# Altium schematic symbol library Schematic_Memory.SchLib: 6 symbols
Pins are listed as number, name and electrical type; pins without a type are passive.

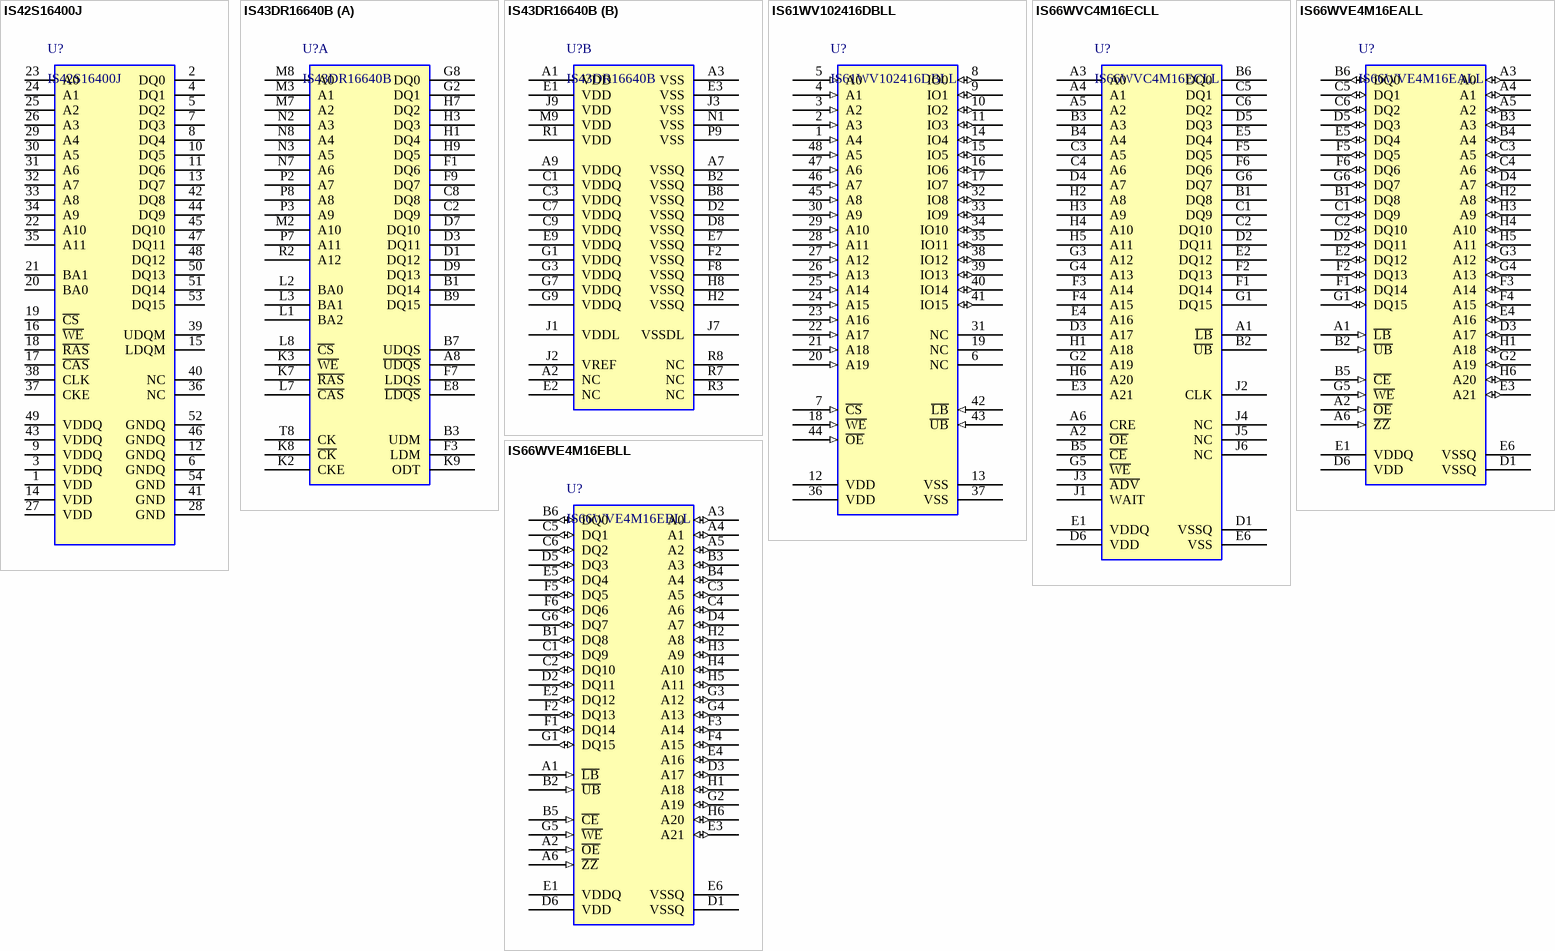
[diagram p0: symbols IS42S16400J to IS66WVE4M16EBLL]

## IS42S16400J
designator U?
DRAM 64M (4Mx16) 166MHz SDR SDRAM, 3.3V; Manufacturer: ISSI; Manufacturer Part Number: IS42S16400J-6TLI; Access Time: 5.4ns; Max Supply Voltage: 3.6V; Min Supply Voltage: 3V; Data Bus Width: 16b; Memory Size: 64Mb; Memory Type: RAM,SDRAM; Interface: Parallel; Address Bus Width: 14b; Nominal Supply Current: 100mA; Supplier 1: Avnet; Stock 1: 1136; Pricing 1: 1=1.29, 10=1.29, 25=1.29, 50=1.19, 100=1.19 (USD); Mount: Surface Mount; Case/Package: TSOP; Number of Pins: 54; Min Operating Temperature: -40°C; Max Operating Temperature: 85°C; Packaging: Tray; Package Quantity: 108; Frequency: 166MHz; Max Frequency: 166MHz; Operating Supply Voltage: 3.3V; Density: 64Mb; Radiation Hardening: No; Lead Free: Lead Free; ComponentLink1URL: https://www.verical.com/server-webapp/html/getDatasheet?partID=783875&src-supplier=Verical; ComponentLink1Description: https://www.verical.com/server-webapp/html/getDatasheet?partID=783875&src-supplier=Verical
footprint TSOP80P1180X120-54N (TSOP, 54-Leads, Body 22.20x10.15mm, Pitch 0.80mm, IPC Medium Density)
pins: 1 VDD, 2 DQ0, 3 VDDQ, 4 DQ1, 5 DQ2, 6 GNDQ, 7 DQ3, 8 DQ4, 9 VDDQ, 10 DQ5, 11 DQ6, 12 GNDQ, 13 DQ7, 14 VDD, 15 LDQM, 16 ~{WE}, 17 ~{CAS}, 18 ~{RAS}, 19 ~{CS}, 20 BA0, 21 BA1, 22 A10, 23 A0, 24 A1, 25 A2, 26 A3, 27 VDD, 28 GND, 29 A4, 30 A5, 31 A6, 32 A7, 33 A8, 34 A9, 35 A11, 36 NC, 37 CKE, 38 CLK, 39 UDQM, 40 NC, 41 GND, 42 DQ8, 43 VDDQ, 44 DQ9, 45 DQ10, 46 GNDQ, 47 DQ11, 48 DQ12, 49 VDDQ, 50 DQ13, 51 DQ14, 52 GNDQ, 53 DQ15, 54 GND

## IS43DR16640B
designator U?
SDRAM 1Gb (64Mx16) 333Mhz SDRAM, 1.7 - 1.9V
footprint BGA84C80P9X15_800X1250X120
part A pins: A8 ~{UDQS}, B1 DQ14, B3 UDM, B7 UDQS, B9 DQ15, C2 DQ9, C8 DQ8, D1 DQ12, D3 DQ11, D7 DQ10, D9 DQ13, E8 ~{LDQS}, F1 DQ6, F3 LDM, F7 LDQS, F9 DQ7, G2 DQ1, G8 DQ0, H1 DQ4, H3 DQ3, H7 DQ2, H9 DQ5, K2 CKE, K3 ~{WE}, K7 ~{RAS}, K8 ~{CK}, K9 ODT, L1 BA2, L2 BA0, L3 BA1, L7 ~{CAS}, L8 ~{CS}, M2 A10, M3 A1, M7 A2, M8 A0, N2 A3, N3 A5, N7 A6, N8 A4, P2 A7, P3 A9, P7 A11, P8 A8, R2 A12, T8 CK
part B pins: A1 VDD, A2 NC, A3 VSS, A7 VSSQ, A9 VDDQ, B2 VSSQ, B8 VSSQ, C1 VDDQ, C3 VDDQ, C7 VDDQ, C9 VDDQ, D2 VSSQ, D8 VSSQ, E1 VDD, E2 NC, E3 VSS, E7 VSSQ, E9 VDDQ, F2 VSSQ, F8 VSSQ, G1 VDDQ, G3 VDDQ, G7 VDDQ, G9 VDDQ, H2 VSSQ, H8 VSSQ, J1 VDDL, J2 VREF, J3 VSS, J7 VSSDL, J9 VDD, M9 VDD, N1 VSS, P9 VSS, R1 VDD, R3 NC, R7 NC, R8 NC

## IS61WV102416DBLL
designator U?
IC SRAM 16M PARALLEL 48TSOP I; Manufacturer: ISSI; Manufacturer Part Number: IS61WV102416DBLL10TLI; Supplier 1: Digi-Key; RoHS: No; Category: RAM; Stock 1: 381; Pricing 1: 1=13.38000, 10=12.39300, 25=12.22000, 50=12.07020, 100=10.57830, 250=10.12096, 500=10.05348, 1000=9.37875 (USD); Case/Package: TSOP; Number of Pins: 48; ComponentLink1URL: http://www.issi.com/WW/pdf/61-64WV102416DALL_BLL.pdf?src-supplier=Digi-Key; ComponentLink1Description: http://www.issi.com/WW/pdf/61-64WV102416DALL_BLL.pdf?src-supplier=Digi-Key
footprint TSOP50P2000X120-48N (TSSOP, 48-Leads, Body 12.00x18.40mm, Pitch 0.50mm, IPC Medium Density)
pins: 1 A4 (in), 2 A3 (in), 3 A2 (in), 4 A1 (in), 5 A0 (in), 6 NC, 7 ~{CS} (in), 8 IO0 (io), 9 IO1 (io), 10 IO2 (io), 11 IO3 (io), 12 VDD, 13 VSS, 14 IO4 (io), 15 IO5 (io), 16 IO6 (io), 17 IO7 (io), 18 ~{WE} (in), 19 NC, 20 A19 (in), 21 A18 (in), 22 A17 (in), 23 A16 (in), 24 A15 (in), 25 A14 (in), 26 A13 (in), 27 A12 (in), 28 A11 (in), 29 A10 (in), 30 A9 (in), 31 NC, 32 IO8 (io), 33 IO9 (io), 34 IO10 (io), 35 IO11 (io), 36 VDD, 37 VSS, 38 IO12 (io), 39 IO13 (io), 40 IO14 (io), 41 IO15 (io), 42 ~{LB} (in), 43 ~{UB} (in), 44 ~{OE} (in), 45 A8 (in), 46 A7 (in), 47 A6 (in), 48 A5 (in)

## IS66WVC4M16ECLL
designator U?
PSRAM Async/Sync 64M-Bit 4M x 16 70ns 54-Pin VFBGA; Manufacturer: ISSI; Manufacturer Part Number: IS66WVC4M16ECLL-7010BLI; Density: 64Mb; Operating Supply Voltage: 1.8V; Address Bus Width: 22b; Number of Ports: 1; Supplier 1: Mouser; RoHS: Yes; Category: Memory; Stock 1: 510; Pricing 1: 1=5.79000, 10=5.28000, 25=5.14000, 100=4.61000, 250=4.60000, 500=4.31000, 1000=4.13000, 2500=3.80000, 5000=3.67000 (USD); Number of Pins: 54; Min Operating Temperature: -40°C; Max Operating Temperature: 85°C; ComponentLink1URL: http://www.mouser.com/ds/2/198/66-67WVC4M16EALL-845141.pdf?src-supplier=Mouser; ComponentLink1Description: http://www.mouser.com/ds/2/198/66-67WVC4M16EALL-845141.pdf?src-supplier=Mouser; ComponentLink2URL: http://www.issi.com/WW/pdf/66-67WVC4M16EALL.pdf?src-supplier=Avnet; ComponentLink2Description: http://www.issi.com/WW/pdf/66-67WVC4M16EALL.pdf?src-supplier=Avnet
footprint BGA54C75P6X9_600X800X100 (BGA, 54-Leads, Body 6.00x8.00mmx1.00mm, Pitch 0.75mm)
pins: A1 ~{LB}, A2 ~{OE}, A3 A0, A4 A1, A5 A2, A6 CRE, B1 DQ8, B2 ~{UB}, B3 A3, B4 A4, B5 ~{CE}, B6 DQ0, C1 DQ9, C2 DQ10, C3 A5, C4 A6, C5 DQ1, C6 DQ2, D1 VSSQ, D2 DQ11, D3 A17, D4 A7, D5 DQ3, D6 VDD, E1 VDDQ, E2 DQ12, E3 A21, E4 A16, E5 DQ4, E6 VSS, F1 DQ14, F2 DQ13, F3 A14, F4 A15, F5 DQ5, F6 DQ6, G1 DQ15, G2 A19, G3 A12, G4 A13, G5 ~{WE}, G6 DQ7, H1 A18, H2 A8, H3 A9, H4 A10, H5 A11, H6 A20, J1 WAIT, J2 CLK, J3 ~{ADV}, J4 NC, J5 NC, J6 NC

## IS66WVE4M16EALL
designator U?
PSRAM 64M PARALLEL 48TFBGA, VDD = 1.7 ~ 1.95V, VDDQ = 1.7 ~ 1.95V; Manufacturer: ISSI; Manufacturer Part Number: IS66WVE4M16EALL-70BLI; Memory Type: RAM; Supplier 1: Digi-Key; RoHS: Yes; Category: Memory; Stock 1: 990; Pricing 1: 1=5.55000, 10=5.06000, 25=4.96400, 50=4.93000, 100=4.42260, 250=4.40560, 500=4.13060, 1000=3.95483 (USD); Case/Package: TFBGA; Min Operating Temperature: -40°C; Max Operating Temperature: 85°C; Packaging: Tray; Interface: Parallel; ComponentLink1URL: https://media.digikey.com/pdf/Data%20Sheets/ISSI%20PDFs/IS66WVE4M16ALL,_IS67WVE4M16ALL.pdf?src-supplier=Digi-Key; ComponentLink1Description: https://media.digikey.com/pdf/Data%20Sheets/ISSI%20PDFs/IS66WVE4M16ALL,_IS67WVE4M16ALL.pdf?src-supplier=Digi-Key; ComponentLink2URL: http://www.mouser.com/ds/2/198/66-67WVE4M16EALL-BLL-CLL-462616.pdf?src-supplier=Mouser; ComponentLink2Description: http://www.mouser.com/ds/2/198/66-67WVE4M16EALL-BLL-CLL-462616.pdf?src-supplier=Mouser; ComponentLink3URL: http://www.issi.com/WW/pdf/66-67WVE4M16EALL-BLL-CLL.pdf?src-supplier=Avnet; ComponentLink3Description: http://www.issi.com/WW/pdf/66-67WVE4M16EALL-BLL-CLL.pdf?src-supplier=Avnet
footprint BGA48C75P6X8_600X800X120 (BGA, 48-Leads, Body 6.00x8.00mmx1.20mm, Pitch 0.75mm)
pins: A1 ~{LB} (in), A2 ~{OE} (in), A3 A0 (io), A4 A1 (io), A5 A2 (io), A6 ~{ZZ} (in), B1 DQ8 (io), B2 ~{UB} (in), B3 A3 (io), B4 A4 (io), B5 ~{CE} (in), B6 DQ0 (io), C1 DQ9 (io), C2 DQ10 (io), C3 A5 (io), C4 A6 (io), C5 DQ1 (io), C6 DQ2 (io), D1 VSSQ (power), D2 DQ11 (io), D3 A17 (io), D4 A7 (io), D5 DQ3 (io), D6 VDD (power), E1 VDDQ (power), E2 DQ12 (io), E3 A21 (io), E4 A16 (io), E5 DQ4 (io), E6 VSSQ (power), F1 DQ14 (io), F2 DQ13 (io), F3 A14 (io), F4 A15 (io), F5 DQ5 (io), F6 DQ6 (io), G1 DQ15 (io), G2 A19 (io), G3 A12 (io), G4 A13 (io), G5 ~{WE} (in), G6 DQ7 (io), H1 A18 (io), H2 A8 (io), H3 A9 (io), H4 A10 (io), H5 A11 (io), H6 A20 (io)

## IS66WVE4M16EBLL
designator U?
IC PSRAM 64M PARALLEL 48TFBGA, VDD = 2.7 ~ 3.6V, VDDQ = 2.7 ~ 3.6V; Manufacturer: ISSI; Manufacturer Part Number: IS66WVE4M16EBLL-70BLI; Density: 64Mb; Address Bus Width: 22b; Number of Ports: 1; RoHS: Yes; Category: Memory; Stock 1: 378; Pricing 1: 1=4.69000, 10=4.25700, 25=4.16480, 50=4.14180, 100=3.71450, 250=3.70064, 500=3.56434, 1000=3.38877 (USD); Case/Package: TFBGA; Number of Pins: 48; Min Operating Temperature: -40°C; Max Operating Temperature: 85°C; ComponentLink1URL: http://www.mouser.com/ds/2/198/66-67WVE4M16EALL-BLL-CLL-462616.pdf?src-supplier=Mouser; ComponentLink1Description: http://www.mouser.com/ds/2/198/66-67WVE4M16EALL-BLL-CLL-462616.pdf?src-supplier=Mouser; ComponentLink2URL: http://www.issi.com/WW/pdf/66-67WVE4M16EALL-BLL-CLL.pdf?src-supplier=Avnet; ComponentLink2Description: http://www.issi.com/WW/pdf/66-67WVE4M16EALL-BLL-CLL.pdf?src-supplier=Avnet; ComponentLink3URL: http://www.issi.com/WW/pdf/66-67WVE4M16EALL-BLL-CLL.pdf?src-supplier=Digi-Key; ComponentLink3Description: http://www.issi.com/WW/pdf/66-67WVE4M16EALL-BLL-CLL.pdf?src-supplier=Digi-Key
footprint BGA48C75P6X8_600X800X120 (BGA, 48-Leads, Body 6.00x8.00mmx1.20mm, Pitch 0.75mm)
pins: A1 ~{LB} (in), A2 ~{OE} (in), A3 A0 (io), A4 A1 (io), A5 A2 (io), A6 ~{ZZ} (in), B1 DQ8 (io), B2 ~{UB} (in), B3 A3 (io), B4 A4 (io), B5 ~{CE} (in), B6 DQ0 (io), C1 DQ9 (io), C2 DQ10 (io), C3 A5 (io), C4 A6 (io), C5 DQ1 (io), C6 DQ2 (io), D1 VSSQ (power), D2 DQ11 (io), D3 A17 (io), D4 A7 (io), D5 DQ3 (io), D6 VDD (power), E1 VDDQ (power), E2 DQ12 (io), E3 A21 (io), E4 A16 (io), E5 DQ4 (io), E6 VSSQ (power), F1 DQ14 (io), F2 DQ13 (io), F3 A14 (io), F4 A15 (io), F5 DQ5 (io), F6 DQ6 (io), G1 DQ15 (io), G2 A19 (io), G3 A12 (io), G4 A13 (io), G5 ~{WE} (in), G6 DQ7 (io), H1 A18 (io), H2 A8 (io), H3 A9 (io), H4 A10 (io), H5 A11 (io), H6 A20 (io)